# EAGLE library part BAS16VY (library Diodes)
DIODE ARRAY GP 100V 200MA 6TSSOP
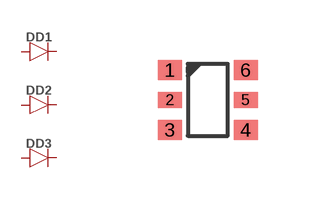
[diagram p1: symbol with the pads of SOT363; footprint SOT363]

Designator prefix D; gates D1=D D2=D D3=D

## BAS16VY (DIGIKEY#: 1727-6171-1-ND; MANF: Nexperia USA Inc; MANF#: BAS16VY,115)  [SOT363]
1  D1:A  pas
2  D2:A  pas
3  D3:A  pas
4  D3:C  pas
5  D2:C  pas
6  D1:C  pas

## Footprint SOT363 (pad centres in mm)
smd 0.6 x 0.5: 1 -0.95,0.75; 3 -0.95,-0.75; 4 0.95,-0.75; 6 0.95,0.75
smd 0.6 x 0.4: 2 -0.95,0; 5 0.95,0